# EAGLE library part CDD3WS2405S (library DC-DC menice)
DC/DC menic 3W jeden výstup
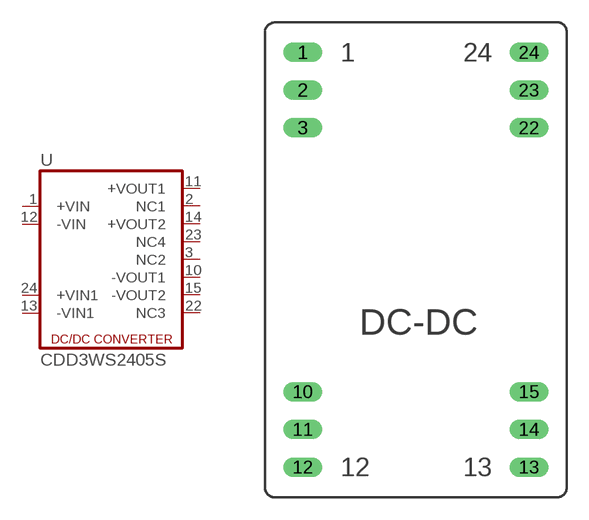
[diagram p7: symbol with the pads of DCW; footprint DCW]

Designator prefix -

## CDD3WS2405S  [DCW]
1  +VIN  pas
2  NC1  pas
3  NC2  pas
10  -VOUT1  pas
11  +VOUT1  pas
12  -VIN  pas
13  -VIN1  pas
14  +VOUT2  pas
15  -VOUT2  pas
22  NC3  pas
23  NC4  pas
24  +VIN1  pas

## Footprint DCW (pad centres in mm)
DC-DC CONVERTER
drill 0.813 long: 1 -7.62,13.97; 2 -7.62,11.43; 3 -7.62,8.89; 10 -7.62,-8.89; 11 -7.62,-11.43; 12 -7.62,-13.97; 13 7.62,-13.97; 14 7.62,-11.43; 15 7.62,-8.89; 22 7.62,8.89; 23 7.62,11.43; 24 7.62,13.97